# EAGLE library part MOTORCON (library gen3)
Motor Connector bottom side connector for ribbon cable
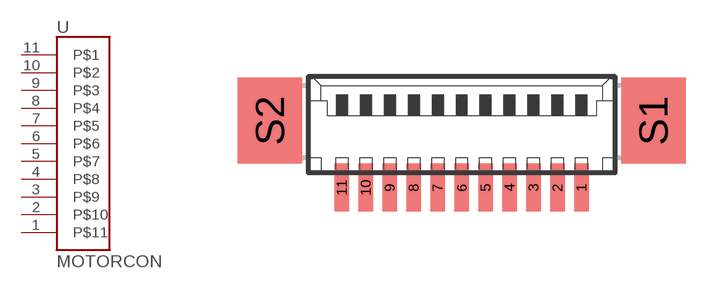
[diagram p6: symbol with the pads of GEN3CON; footprint GEN3CON]

Designator prefix -

## MOTORCON  [GEN3CON]
1  P$11
2  P$10
3  P$9
4  P$8
5  P$7
6  P$6
7  P$5
8  P$4
9  P$3
10  P$2
11  P$1

## Footprint GEN3CON (pad centres in mm)
CONNECTOR wire to board 1 mm (.0394 inch) pitch header SMT digikey: A101390CT-ND
smd 0.61 x 2: 1 5,-2; 2 4,-2; 3 3,-2; 4 2,-2; 5 1,-2; 7 -1,-2; 8 -2,-2; 9 -3,-2; 10 -4,-2; 11 -5,-2
smd 0.6 x 2: 6 0,-2
smd 2.68 x 3.6: S1 8,0.8; S2 -8,0.8